# Altium footprint library RBM_V1.0_PcbLib.PcbLib: 39 footprints (part 3 of 3)
Each footprint in its own frame and in the unit in brackets; x right, y up, seen from the top. Pads: shape width x height; smd on the part's side, far side on the other; paste and mask are expansions set on the pad; w line width, h text height; cw(c..) or ccw(c..) is an arc to the next point about the centre after c.
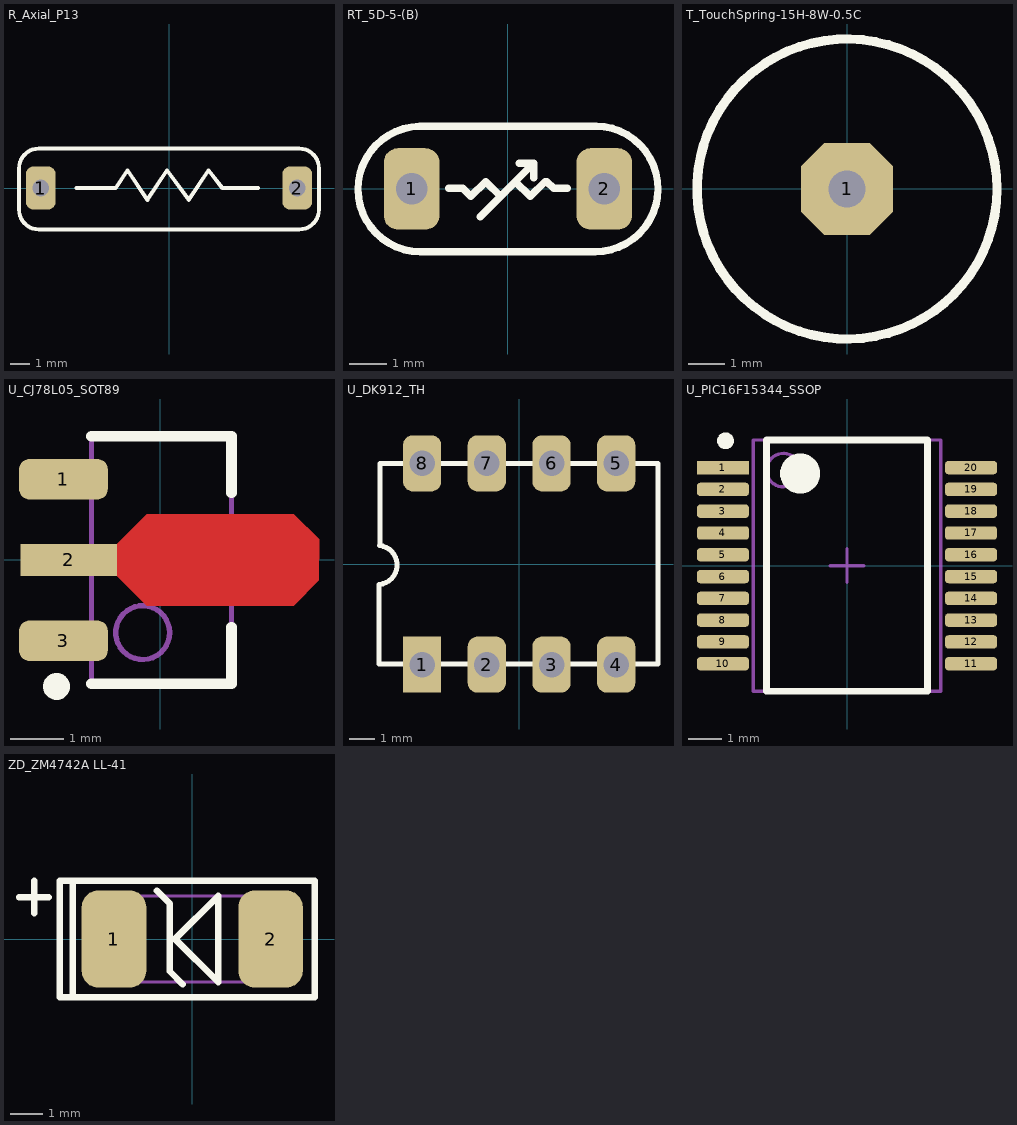
[diagram p2: the footprints below, top view; thin cyan lines are the x and y axes]

## R_Axial_P13 [mm] "220 ohm 2W 1%"
pads (2):
  rrect50% 1.5x2.2 hole 0.85: 1(-6.5,0) 2(6.5,0)
Top Overlay:
  lines w0.2: -4.7,0 -2.7,0 -2.1,0.9 -1.1,-0.6 -0.1,0.9 1,-0.6 2,0.9 2.7,0 4.5,0 ; -7.6,-1.1 ccw(c-6.6,-1.1) -6.6,-2.1 -5.7,-2.1 6.6,-2.1 ccw(c6.6,-1.1) 7.6,-1.1 7.6,1 ccw(c6.6,1) 6.6,2 -6.6,2 ccw(c-6.6,1) -7.6,1 -7.6,-1.1
3D body "User Library-Res50-Axial 0_5W-2_2K.step": height 5.87, standoff -3.5, extent -6.725,-1.875 6.725,1.875

## RT_5D-5-(B) [mm]
pads (2):
  rrect50% 1.5x2.2 hole 0.85: 1(-2.6,0) 2(2.6,0)
Top Overlay:
  lines w0.1: -1.229,0.018 -1.218,0.018 ; 1,0.2 1.049,0.2 ; -0.6,0.2 -0.6,0.2 ; 0.6,-0.2 0.6,-0.2
  lines w0.2: -2.384,1.691 ccw(c-2.353,-0.005) -2.371,-1.7 ; -2.384,1.692 2.38,1.692 ; -2.353,-1.694 2.355,-1.694 ; -1.6,0.018 -1.229,0.018 ; -1.218,0.018 -1,-0.2 -0.6,0.2 -0.2,-0.2 0.2,0.2 0.6,-0.2 1,0.2 ; -0.75,-0.75 0.7,0.7 ; 0.3,0.7 0.7,0.7 ; 0.7,0.3 0.7,0.7 ; 1.049,0.2 1.232,0.018 1.6,0.018 ; 2.347,-1.694 ccw(c2.355,0.002) 2.38,1.698
3D body: height 2, standoff -1, extent -2.874,-0.274 -2.326,0.274
3D body: height 2, standoff -1, extent 2.327,-0.274 2.875,0.275
3D body: height 6.75, standoff 1.25, extent -2.752,-1.638 2.748,1.692
3D body: height 4, standoff 1, extent -2.9,-0.3 -2.302,0.299
3D body: height 4, standoff 1, extent 2.302,-0.299 2.9,0.3

## T_TouchSpring-15H-8W-0.5C [mm]
pads (1):
  oct 2.5x2.5 hole 1: 1(0,0)
Top Overlay:
  circle w0.254: c0,0 r4.09
3D body: height 3, standoff -3, extent -0.258,-0.259 0.26,0.26
3D body: height 15, standoff 0, extent -4,-3.997 4,3.997
3D body: height 3, standoff -3, extent 0,0 0,0

## U_CJ78L05_SOT89 [mm] "SOT89, 3-Leads, Body 4.50x2.45mm, Pitch 1.50mm, Lead Span 4.1mm - Reverse Pinning, IPC Medium Density"
height 1.6
pads (3):
  rrect50% 1.65x0.75 smd: 1(-1.8,1.5) 3(-1.8,-1.5)
  rect 1.8x0.6 smd: 2(-1.7,0)
Top Layer:
  region: -0.8,0.3 -0.25,0.85 2.479,0.85 2.948,0.381 2.948,-0.381 2.479,-0.85 -0.25,-0.85 -0.8,-0.3
Top Overlay:
  circle w0.25: c-1.927,-2.35 r0.125
  lines w0.2: -1.278,-2.3 1.322,-2.3 1.322,-1.25 ; -1.278,2.3 1.322,2.3 1.322,1.25
Mechanical 13:
  circle w0.1: c-0.327,-1.35 r0.5
  lines w0.1: -1.278,-2.3 1.322,-2.3 1.322,2.3 -1.278,2.3 -1.278,-2.3
3D body "SOT89R-150P410X160-3N.step": height 1.6, standoff 0, extent -2.2,-2.3 1.8,2.3

## U_DK912_TH [mm]
pads (8):
  rect 1.5x2.2 hole 1: 1(-3.81,-3.95)
  rrect50% 1.5x2.2 hole 1: 2(-1.27,-3.95) 3(1.27,-3.95) 4(3.81,-3.95) 5(3.81,3.95) 6(1.27,3.95) 7(-1.27,3.95) 8(-3.81,3.95)
Top Overlay:
  lines w0.2: -5.5,-0.8 -5.5,-3.92 5.45,-3.92 5.45,3.95 -5.47,3.95 -5.47,0.724 ; -5.471,0.724 cw(c-5.559,-0.038) -5.47,-0.8
3D body "SW3DPS-DIP 8 IC-DEFAULT.STEP": height 5.58, standoff -3, extent -5.47,-3.92 5.45,3.95

## U_PIC16F15344_SSOP [mm] "SOP, 20-Leads, Body 7.20x5.30mm, Pitch 0.65mm, IPC Medium Density"
height 2
pads (20):
  rect 1.55x0.4 smd: 1(-3.7,2.925)
  rrect50% 1.55x0.4 smd: 2(-3.7,2.275) 3(-3.7,1.625) 4(-3.7,0.975) 5(-3.7,0.325) 6(-3.7,-0.325) 7(-3.7,-0.975) 8(-3.7,-1.625) 9(-3.7,-2.275) 10(-3.7,-2.925) 11(3.7,-2.925) 12(3.7,-2.275) 13(3.7,-1.625) 14(3.7,-0.975) 15(3.7,-0.325) 16(3.7,0.325) 17(3.7,0.975) 18(3.7,1.625) 19(3.7,2.275) 20(3.7,2.925)
Top Overlay:
  circle w0.25: c-3.625,3.725 r0.125
  circle w0.6: c-1.4,2.75 r0.3
  lines w0.2: -2.4,-3.75 -2.4,3.75 2.4,3.75 2.4,-3.75 -2.4,-3.75
Mechanical 13:
  circle w0.1: c-1.9,2.85 r0.5
  lines w0.1: -2.8,-3.75 -2.8,3.75 2.8,3.75 2.8,-3.75 -2.8,-3.75
Mechanical 15:
  lines w0.1: -0.5,0 0.5,0 ; 0,-0.5 0,0.5
3D body "SOP65P780X200-20N.step": height 2, standoff 0, extent -3.9,-3.75 3.9,3.75

## ZD_ZM4742A LL-41 [mm]
height 2.67
pads (2):
  rrect50% 2x3 smd: 1(-2.425,0) 2(2.425,0)
Top Overlay:
  lines w0.2: -5.367,1.3 -4.451,1.3 ; -4.9,0.8 -4.9,1.8 ; -3.7,-1.8 -3.7,1.8 ; -1.1,1.5 -0.7,1.1 -0.7,-1 -0.3,-1.4 ; -4.1,-1.8 -4.1,1.8 3.8,1.8 3.8,-1.8 -4.1,-1.8 ; -0.535,0 0.8,1.335 0.8,-1.335 -0.535,0
Mechanical 13:
  lines w0.1: -2.75,-1.335 -2.75,1.335 2.75,1.335 2.75,-1.335 -2.75,-1.335
3D body "ZD.step": height 2.46, standoff 0.01, extent -2.575,-1.227 2.575,1.228